# Altium schematic symbol library BUTTON.SchLib: 1 symbol
Pins are listed as number, name and electrical type; pins without a type are passive.

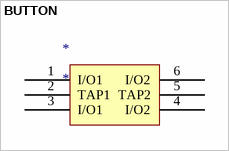
[diagram p0: symbol BUTTON]

## BUTTON
designator *
pins: 1 I/O1 (power), 2 TAP1 (power), 3 I/O1 (power), 4 I/O2 (power), 5 TAP2 (power), 6 I/O2 (power)